# Altium footprint library CY489-04-01-01-00-01_单兵信息终端电路板PCB.PcbLib: 25 footprints (part 2 of 2)
Each footprint in its own frame and in the unit in brackets; x right, y up, seen from the top. Pads: shape width x height; smd on the part's side, far side on the other; paste and mask are expansions set on the pad; w line width, h text height; cw(c..) or ccw(c..) is an arc to the next point about the centre after c.
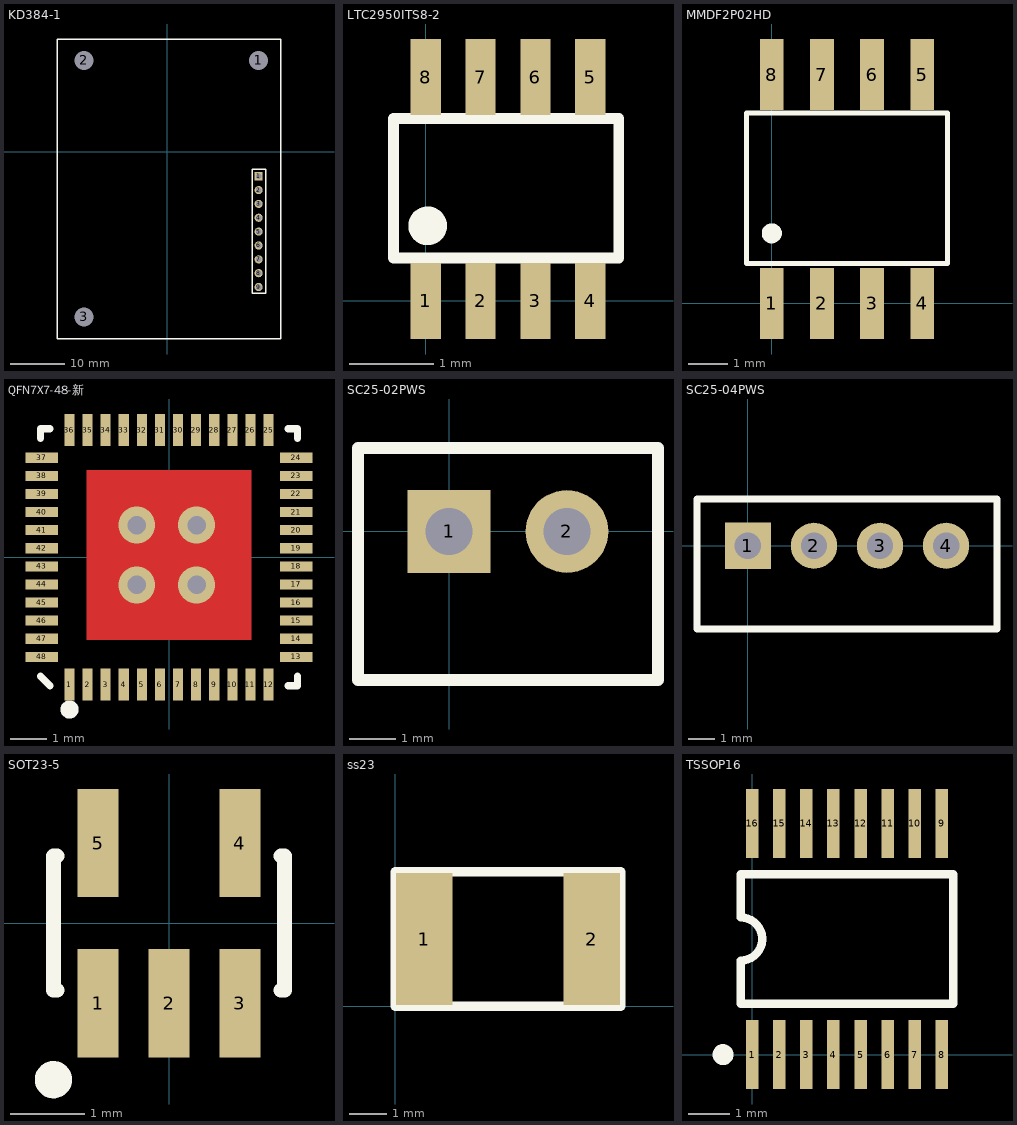
[diagram p1: the footprints below, top view; thin cyan lines are the x and y axes]

## KD384-1 [mm]
pads (12):
  rect 1.5x1.5 hole 1: 1(16.718,-4.445)
  round 3.2 hole 3.5: 1(16.718,16.774) 2(-15.282,16.774) 3(-15.282,-30.226)
  round 1.5 hole 1: 2(16.718,-6.985) 3(16.718,-9.525) 4(16.718,-12.065) 5(16.718,-14.605) 6(16.718,-17.145) 7(16.718,-19.685) 8(16.718,-22.225) 9(16.718,-24.765)
Top Overlay:
  lines w0.254: 20.774,20.71 -20.218,20.71 -20.218,-34.29 20.782,-34.29 20.782,20.71 ; 15.512,-25.933 18.052,-25.933 18.052,-3.2 15.512,-3.2 15.512,-25.933

## LTC2950ITS8-2 [mm]
pads (8):
  rect 0.36x0.9 smd: 1(0,0) 2(0.65,0) 3(1.3,0) 4(1.95,0) 5(1.95,2.65) 6(1.3,2.65) 7(0.65,2.65) 8(0,2.65)
Top Overlay:
  circle w0.254: c0.025,0.889 r0.102
  lines w0.127: -0.381,0.508 2.286,0.508 2.286,2.159 -0.381,2.159 -0.381,0.508

## MMDF2P02HD [mm]
pads (8):
  rect 0.6x1.8 smd: 1(0,0) 2(1.27,0) 3(2.54,0) 4(3.81,0) 5(3.81,5.8) 6(2.54,5.8) 7(1.27,5.8) 8(0,5.8)
Top Overlay:
  circle w0.254: c0,1.778 r0.127
  lines w0.127: -0.635,1.016 4.445,1.016 4.445,4.826 -0.635,4.826 -0.635,1.016

## QFN7X7-48-新 [mm]
pads (48):
  rect 0.28x0.889 smd: 1(-2.75,-3.515) 2(-2.25,-3.515) 3(-1.75,-3.515) 4(-1.25,-3.515) 5(-0.75,-3.515) 6(-0.25,-3.515) 7(0.25,-3.515) 8(0.75,-3.515) 9(1.25,-3.515) 10(1.75,-3.515) 11(2.25,-3.515) 12(2.75,-3.515) 25(2.75,3.515) 26(2.25,3.515) 27(1.75,3.515) 28(1.25,3.515) 29(0.75,3.515) 30(0.25,3.515) 31(-0.25,3.515) 32(-0.75,3.515) 33(-1.25,3.515) 34(-1.75,3.515) 35(-2.25,3.515) 36(-2.75,3.515)
  rect 0.889x0.28 smd: 13(3.515,-2.75) 14(3.515,-2.25) 15(3.515,-1.75) 16(3.515,-1.25) 17(3.515,-0.75) 18(3.515,-0.25) 19(3.515,0.25) 20(3.515,0.75) 21(3.515,1.25) 22(3.515,1.75) 23(3.515,2.25) 24(3.515,2.75) 37(-3.515,2.75) 38(-3.515,2.25) 39(-3.515,1.75) 40(-3.515,1.25) 41(-3.515,0.75) 42(-3.515,0.25) 43(-3.515,-0.25) 44(-3.515,-0.75) 45(-3.515,-1.25) 46(-3.515,-1.75) 47(-3.515,-2.25) 48(-3.515,-2.75)
via -0.889,-0.762 diameter 1.016 hole 0.508
via 0.762,-0.762 diameter 1.016 hole 0.508
via 0.762,0.889 diameter 1.016 hole 0.508
via -0.889,0.889 diameter 1.016 hole 0.508
Top Layer:
  rectangle: -2.286,-2.287 2.286,2.412
Top Overlay:
  circle w0.25: c-2.75,-4.205 r0.125
  lines w0.2: -3.55,-3.29 -3.29,-3.55 ; -3.55,3.29 -3.55,3.55 -3.29,3.55 ; 3.29,-3.55 3.55,-3.55 3.55,-3.29 ; 3.29,3.55 3.55,3.55 3.55,3.29

## SC25-02PWS [mil]
pads (2):
  rect 70x70 hole 40: 1(0,0)
  round 70 hole 40: 2(100,0)
Top Overlay:
  lines w10: 176,-125.98 -77.17,-125.98 -77.17,-19.68 -77.17,70.87 177,70.87 ; 177.17,-125.98 177.17,-19.68 177.17,70.87

## SC25-04PWS [mil]
pads (4):
  rect 70x70 hole 40: 1(0,0)
  round 70 hole 40: 2(100,0) 3(200,0) 4(300,0)
Top Overlay:
  lines w10: 377,-125.98 100,-125.98 -77.17,-125.98 -77.17,-19.68 -77.17,70.87 100,70.87 377,70.87 ; 377.17,-125.98 377.17,-19.68 377.17,70.87

## SOT23-5 [mm]
pads (5):
  rect 0.55x1.45 smd: 1(-0.95,-1.075) 2(0,-1.075) 3(0.95,-1.075) 4(0.95,1.075) 5(-0.95,1.075)
Top Overlay:
  circle w0.25: c-1.55,-2.1 r0.125
  lines w0.2: -1.5,-0.9 -1.55,-0.9 -1.55,0.9 -1.5,0.9 ; 1.5,-0.9 1.55,-0.9 1.55,0.9 1.5,0.9

## ss23 [mm]
pads (2):
  rect 1.5x3.5 smd: 1(0.762,1.778) 2(5.207,1.778)
Top Overlay:
  lines w0.254: 5.334,0 5.334,3.556 ; 0,0 0,3.556 5.969,3.556 5.969,0 0,0

## TSSOP16 [mm]
pads (16):
  rect 0.3x1.65 smd: 1(0,0) 2(0.65,0) 3(1.3,0) 4(1.95,0) 5(2.6,0) 6(3.25,0) 7(3.9,0) 8(4.55,0) 9(4.55,5.55) 10(3.9,5.55) 11(3.25,5.55) 12(2.6,5.55) 13(1.95,5.55) 14(1.3,5.55) 15(0.65,5.55) 16(0,5.55)
Top Overlay:
  circle w0.25: c-0.7,0 r0.125
  lines w0.2: -0.275,1.225 4.825,1.225 4.825,4.325 -0.275,4.325 -0.275,3.292 cw(c-0.275,2.775) -0.275,2.258 -0.275,1.225